# Altium footprint library con-thomas-betts.PCBLIB: 58 footprints (part 1 of 4)
Each footprint in its own frame and in the unit in brackets; x right, y up, seen from the top. Pads: shape width x height; smd on the part's side, far side on the other; paste and mask are expansions set on the pad; w line width, h text height; cw(c..) or ccw(c..) is an arc to the next point about the centre after c.
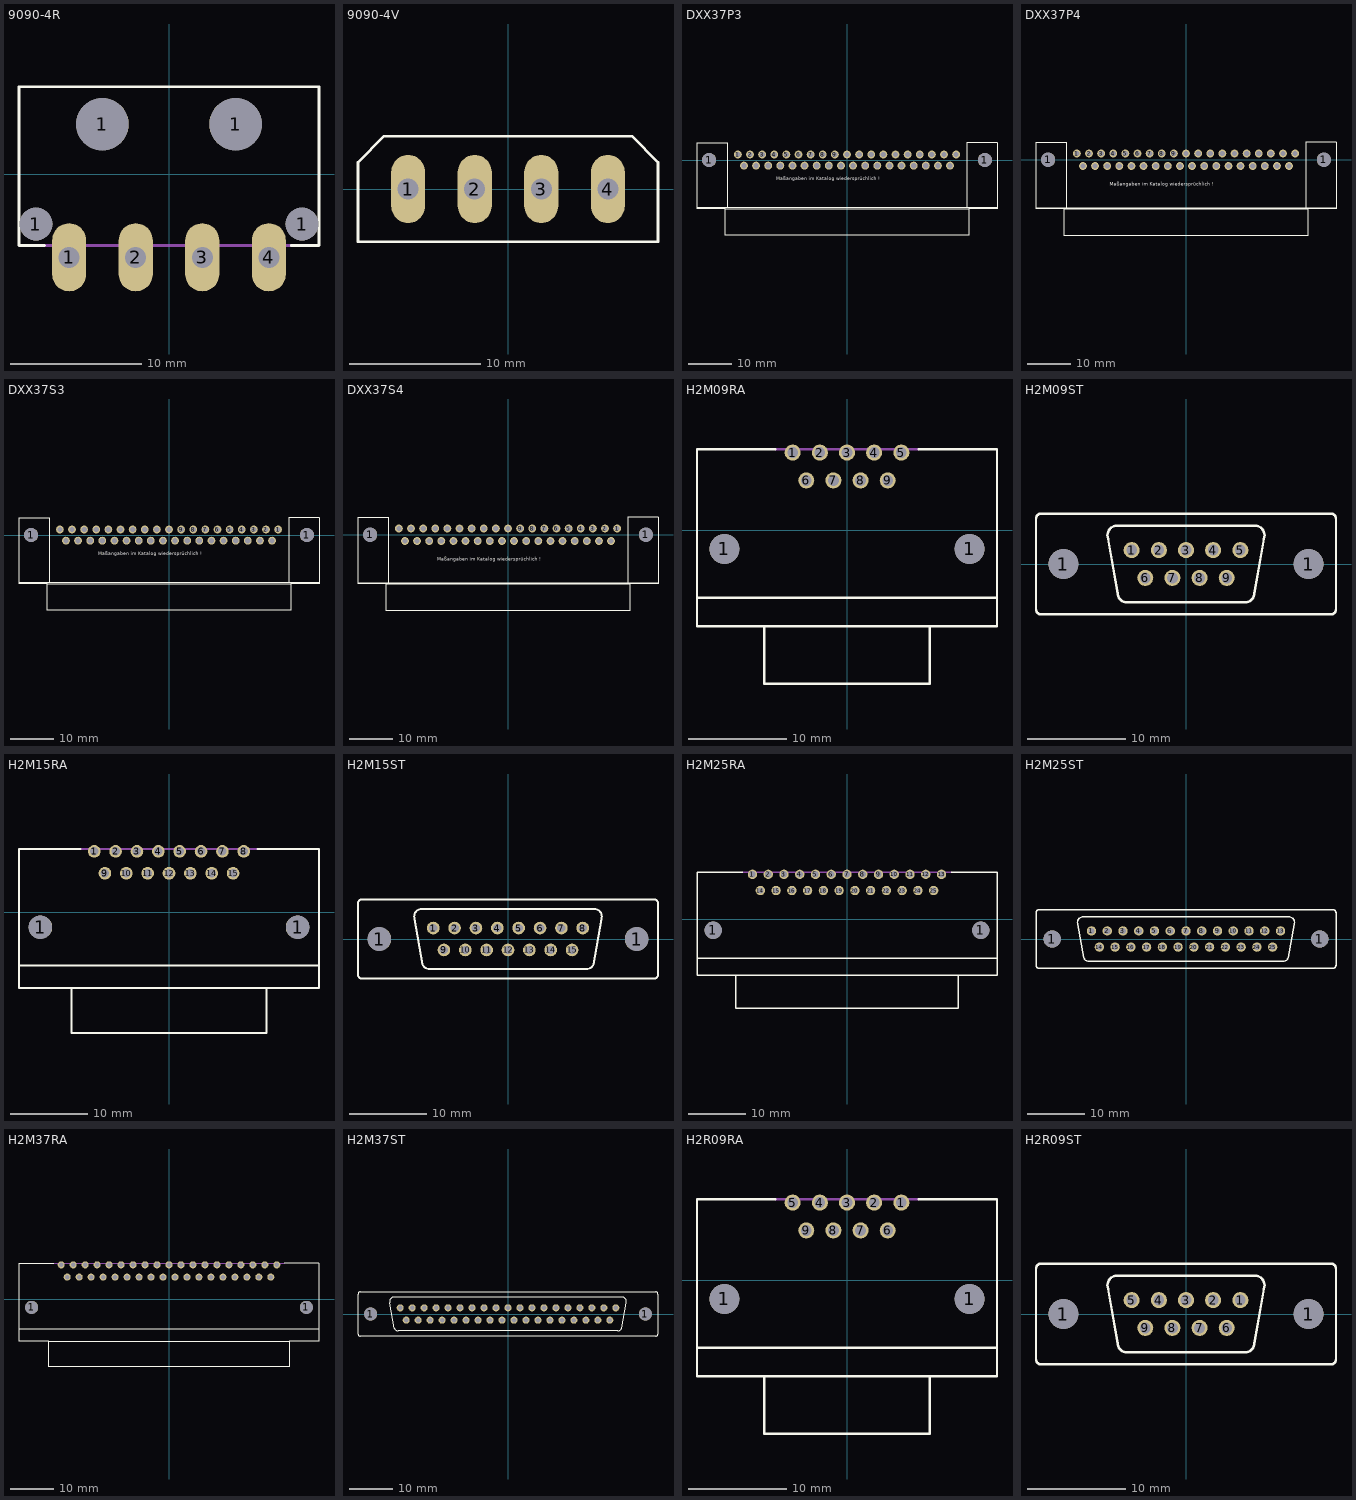
[diagram p0: the footprints below, top view; thin cyan lines are the x and y axes]

## 9090-4R [mm]
pads (8):
  round 2.5 hole 2.5: 1(-10.16,-3.81) 1(10.16,-3.81)
  oval 2.6x5.2 hole 1.6: 1(-7.62,-6.35) 2(-2.54,-6.35) 3(2.54,-6.35) 4(7.62,-6.35)
  round 4 hole 4: 1(-5.08,3.81) 1(5.08,3.81)
Top Overlay:
  lines w0.203: -9.5,-5.45 -11.45,-5.45 -11.45,6.675 11.45,6.675 11.45,-5.45 9.325,-5.45
Mechanical 16:
  lines w0.203: -9.5,-5.45 9.325,-5.45

## 9090-4V [mil]
pads (4):
  oval 102.36x204.72 hole 62.99: 1(-300,0) 2(-100,0) 3(100,0) 4(300,0)
Top Overlay:
  lines w8: -450.79,-158.66 450.79,-158.66 450.79,79.92 372.05,158.66 -372.05,158.66 -450.79,79.92 -450.79,-158.66

## DXX37P3 [mil]
pads (39):
  round 125.98 hole 125.98: 1(-1238.5,0) 1(1238.5,0)
  round 70.86 hole 47.24: 1(-981,50) 2(-872,50) 3(-763,50) 4(-654,50) 5(-545,50) 6(-436,50) 7(-327,50) 8(-218,50) 9(-109,50) 10(0,50) 11(109,50) 12(218,50) 13(327,50) 14(436,50) 15(545,50) 16(654,50) 17(763,50) 18(872,50) 19(981,50) 20(-926.5,-50) 21(-817.5,-50) 22(-708.5,-50) 23(-599.5,-50) 24(-490.5,-50) 25(-381.5,-50) 26(-272.5,-50) 27(-163.5,-50) 28(-54.5,-50) 29(54.5,-50) 30(163.5,-50) 31(272.5,-50) 32(381.5,-50) 33(490.5,-50) 34(599.5,-50) 35(708.5,-50) 36(817.5,-50) 37(926.5,-50)
Top Overlay:
  lines w10: -1348.5,-435.5 -1348.5,156.5 -1075,156.5 -1075,-420 ; -1348,-435.5 -1096,-435.5 ; -1347,-425.5 1348,-425.5 ; 1075,-420 1075,155.5 1348.5,155.5 1348.5,-435.5 ; 1348,-435.5 1096,-435.5 ; -1096,-435.5 -1096,-676.5 1096,-676.5 1096,-435.5 ; -1096,-435.5 1096,-435.5
  text "Maßangaben im Katalog wiedersprüchlich !" at -635,-196 h49.6

## DXX37P4 [mil]
pads (39):
  round 125.98 hole 125.98: 1(-1238.5,0) 1(1238.5,0)
  round 70.86 hole 47.24: 1(-981,56) 2(-872,56) 3(-763,56) 4(-654,56) 5(-545,56) 6(-436,56) 7(-327,56) 8(-218,56) 9(-109,56) 10(0,56) 11(109,56) 12(218,56) 13(327,56) 14(436,56) 15(545,56) 16(654,56) 17(763,56) 18(872,56) 19(981,56) 20(-926.5,-56) 21(-817.5,-56) 22(-708.5,-56) 23(-599.5,-56) 24(-490.5,-56) 25(-381.5,-56) 26(-272.5,-56) 27(-163.5,-56) 28(-54.5,-56) 29(54.5,-56) 30(163.5,-56) 31(272.5,-56) 32(381.5,-56) 33(490.5,-56) 34(599.5,-56) 35(708.5,-56) 36(817.5,-56) 37(926.5,-56)
Top Overlay:
  lines w10: -1348.5,-431.5 1348.5,-431.5 ; -1075,-426 -1075,156.5 -1348.5,156.5 -1348.5,-441.5 -1096,-441.5 ; 1075,-426 1075,155.5 1348.5,155.5 1348.5,-441.5 1096,-441.5 ; -1096,-441.5 -1096,-682.5 1096,-682.5 1096,-441.5 ; -1096,-441.5 1096,-441.5
  text "Maßangaben im Katalog wiedersprüchlich !" at -685,-246 h49.6

## DXX37S3 [mil]
pads (39):
  round 125.98 hole 125.98: 1(-1238.5,0) 1(1238.5,0)
  round 70 hole 47.24: 1(981,50) 2(872,50) 3(763,50) 4(654,50) 5(545,50) 6(436,50) 7(327,50) 8(218,50) 9(109,50) 10(0,50) 11(-109,50) 12(-218,50) 13(-327,50) 14(-436,50) 15(-545,50) 16(-654,50) 17(-763,50) 18(-872,50) 19(-981,50) 20(926.5,-50) 21(817.5,-50) 22(708.5,-50) 23(599.5,-50) 24(490.5,-50) 25(381.5,-50) 26(272.5,-50) 27(163.5,-50) 28(54.5,-50) 29(-54.5,-50) 30(-163.5,-50) 31(-272.5,-50) 32(-381.5,-50) 33(-490.5,-50) 34(-599.5,-50) 35(-708.5,-50) 36(-817.5,-50) 37(-926.5,-50)
Top Overlay:
  lines w10: -1348.5,-435.5 -1348.5,156.5 -1075,156.5 -1075,-420 ; -1348,-435.5 -1096,-435.5 ; -1347,-425.5 1348,-425.5 ; 1075,-420 1075,155.5 1348.5,155.5 1348.5,-435.5 ; 1348,-435.5 1096,-435.5 ; -1096,-435.5 -1096,-676.5 1096,-676.5 1096,-435.5 ; -1096,-435.5 1096,-435.5
  text "Maßangaben im Katalog wiedersprüchlich !" at -635,-196 h49.6

## DXX37S4 [mil]
pads (39):
  round 125.98 hole 125.98: 1(-1238.5,0) 1(1238.5,0)
  round 70.86 hole 47.24: 1(981,56) 2(872,56) 3(763,56) 4(654,56) 5(545,56) 6(436,56) 7(327,56) 8(218,56) 9(109,56) 10(0,56) 11(-109,56) 12(-218,56) 13(-327,56) 14(-436,56) 15(-545,56) 16(-654,56) 17(-763,56) 18(-872,56) 19(-981,56) 20(926.5,-56) 21(817.5,-56) 22(708.5,-56) 23(599.5,-56) 24(490.5,-56) 25(381.5,-56) 26(272.5,-56) 27(163.5,-56) 28(54.5,-56) 29(-54.5,-56) 30(-163.5,-56) 31(-272.5,-56) 32(-381.5,-56) 33(-490.5,-56) 34(-599.5,-56) 35(-708.5,-56) 36(-817.5,-56) 37(-926.5,-56)
Top Overlay:
  lines w10: -1348.5,-431.5 1348.5,-431.5 ; -1075,-426 -1075,156.5 -1348.5,156.5 -1348.5,-441.5 -1096,-441.5 ; 1075,-426 1075,155.5 1348.5,155.5 1348.5,-441.5 1096,-441.5 ; -1096,-441.5 -1096,-682.5 1096,-682.5 1096,-441.5 ; -1096,-441.5 1096,-441.5
  text "Maßangaben im Katalog wiedersprüchlich !" at -635,-246 h49.6

## H2M09RA [mil]
pads (11):
  round 120 hole 120: 1(-492,-75) 1(492,-75)
  round 64.5 hole 43: 1(-218,312) 2(-109,312) 3(0,312) 4(109,312) 5(218,312) 6(-163.5,200) 7(-54.5,200) 8(54.5,200) 9(163.5,200)
Top Overlay:
  lines w10: -602,-270 602,-270 ; -287,325 -602,325 -602,-385 -333,-385 ; 287,325 602,325 602,-385 333,-385 ; -333,-385 -333,-615 333,-615 333,-385 ; -333,-385 333,-385
Mechanical 16:
  lines w10: -286,325 286,325

## H2M09ST [mil]
pads (11):
  round 120 hole 120: 1(-492,0) 1(492,0)
  round 64.5 hole 43: 1(-218,56) 2(-109,56) 3(0,56) 4(109,56) 5(218,56) 6(-163.5,-56) 7(-54.5,-56) 8(54.5,-56) 9(163.5,-56)
Top Overlay:
  lines w10: -602,-183 -602,182 cw(c-582,182) -582,202 582,202 cw(c582,182) 602,182 602,-182 cw(c582,-182) 582,-202 -583,-202 ; -602,-182 ccw(c-582,-182) -582,-202 ; -313,102 -272,-130 ccw(c-237.01,-116.5) -237,-154 237,-154 ccw(c237.01,-116.5) 272,-130 313,102 ccw(c276,114.85) 277,154 -277,154 ccw(c-276,114.85) -313,102

## H2M15RA [mil]
pads (17):
  round 120 hole 120: 1(-656,-75) 1(656,-75)
  round 64.5 hole 43: 1(-381.5,312) 2(-272.5,312) 3(-163.5,312) 4(-54.5,312) 5(54.5,312) 6(163.5,312) 7(272.5,312) 8(381.5,312) 9(-327,200) 10(-218,200) 11(-109,200) 12(0,200) 13(109,200) 14(218,200) 15(327,200)
Top Overlay:
  lines w10: -765.5,-270 765.5,-270 ; -450.5,325 -765.5,325 -765.5,-385 -496.5,-385 ; 450.5,325 765.5,325 765.5,-385 496.5,-385 ; -496.5,-385 -496.5,-615 496.5,-615 496.5,-385 ; -496.5,-385 496.5,-385
Mechanical 16:
  lines w10: -449.5,325 449.5,325

## H2M15ST [mil]
pads (17):
  round 120 hole 120: 1(-656,0) 1(656,0)
  round 64.5 hole 43: 1(-381.5,56) 2(-272.5,56) 3(-163.5,56) 4(-54.5,56) 5(54.5,56) 6(163.5,56) 7(272.5,56) 8(381.5,56) 9(-327,-56) 10(-218,-56) 11(-109,-56) 12(0,-56) 13(109,-56) 14(218,-56) 15(327,-56)
Top Overlay:
  lines w10: -765.5,-183 -765.5,182 cw(c-745.5,182) -745.5,202 745.5,202 cw(c745.5,182) 765.5,182 765.5,-182 cw(c745.5,-182) 745.5,-202 -746.5,-202 ; -765.5,-182 ccw(c-745.5,-182) -745.5,-202 ; -476.5,102 -435.5,-130 ccw(c-400.51,-116.5) -400.5,-154 400.5,-154 ccw(c400.51,-116.5) 435.5,-130 476.5,102 ccw(c439.5,114.85) 440.5,154 -440.5,154 ccw(c-439.5,114.85) -476.5,102

## H2M25RA [mil]
pads (27):
  round 120 hole 120: 1(-926,-75) 1(926,-75)
  round 64.5 hole 43: 1(-654,312) 2(-545,312) 3(-436,312) 4(-327,312) 5(-218,312) 6(-109,312) 7(0,312) 8(109,312) 9(218,312) 10(327,312) 11(436,312) 12(545,312) 13(654,312) 14(-599.5,200) 15(-490.5,200) 16(-381.5,200) 17(-272.5,200) 18(-163.5,200) 19(-54.5,200) 20(54.5,200) 21(163.5,200) 22(272.5,200) 23(381.5,200) 24(490.5,200) 25(599.5,200)
Top Overlay:
  lines w10: -1038,-270 1038,-270 ; -723,325 -1038,325 -1038,-385 -769,-385 ; 723,325 1038,325 1038,-385 769,-385 ; -769,-385 -769,-615 769,-615 769,-385 ; -769,-385 769,-385
Mechanical 16:
  lines w10: -722,325 722,325

## H2M25ST [mil]
pads (27):
  round 120 hole 120: 1(-926,0) 1(926,0)
  round 64.5 hole 43: 1(-654,56) 2(-545,56) 3(-436,56) 4(-327,56) 5(-218,56) 6(-109,56) 7(0,56) 8(109,56) 9(218,56) 10(327,56) 11(436,56) 12(545,56) 13(654,56) 14(-599.5,-56) 15(-490.5,-56) 16(-381.5,-56) 17(-272.5,-56) 18(-163.5,-56) 19(-54.5,-56) 20(54.5,-56) 21(163.5,-56) 22(272.5,-56) 23(381.5,-56) 24(490.5,-56) 25(599.5,-56)
Top Overlay:
  lines w10: -1038,-183 -1038,182 cw(c-1018,182) -1018,202 1018,202 cw(c1018,182) 1038,182 1038,-182 cw(c1018,-182) 1018,-202 -1019,-202 ; -1038,-182 ccw(c-1018,-182) -1018,-202 ; -749,102 -708,-130 ccw(c-673.01,-116.5) -673,-154 673,-154 ccw(c673.01,-116.5) 708,-130 749,102 ccw(c712,114.85) 713,154 -713,154 ccw(c-712,114.85) -749,102

## H2M37RA [mil]
pads (39):
  round 120 hole 120: 1(-1250,-75) 1(1250,-75)
  round 64.5 hole 43: 1(-981,312) 2(-872,312) 3(-763,312) 4(-654,312) 5(-545,312) 6(-436,312) 7(-327,312) 8(-218,312) 9(-109,312) 10(0,312) 11(109,312) 12(218,312) 13(327,312) 14(436,312) 15(545,312) 16(654,312) 17(763,312) 18(872,312) 19(981,312) 20(-926.5,200) 21(-817.5,200) 22(-708.5,200) 23(-599.5,200) 24(-490.5,200) 25(-381.5,200) 26(-272.5,200) 27(-163.5,200) 28(-54.5,200) 29(54.5,200) 30(163.5,200) 31(272.5,200) 32(381.5,200) 33(490.5,200) 34(599.5,200) 35(708.5,200) 36(817.5,200) 37(926.5,200)
Top Overlay:
  lines w10: -1365,-270 1365,-270 ; -1050,325 -1365,325 -1365,-385 -1096,-385 ; 1050,325 1365,325 1365,-385 1096,-385 ; -1096,-385 -1096,-615 1096,-615 1096,-385 ; -1096,-385 1096,-385
Mechanical 16:
  lines w10: -1049,325 1049,325

## H2M37ST [mil]
pads (39):
  round 120 hole 120: 1(-1250,0) 1(1250,0)
  round 64.5 hole 43: 1(-981,56) 2(-872,56) 3(-763,56) 4(-654,56) 5(-545,56) 6(-436,56) 7(-327,56) 8(-218,56) 9(-109,56) 10(0,56) 11(109,56) 12(218,56) 13(327,56) 14(436,56) 15(545,56) 16(654,56) 17(763,56) 18(872,56) 19(981,56) 20(-926.5,-56) 21(-817.5,-56) 22(-708.5,-56) 23(-599.5,-56) 24(-490.5,-56) 25(-381.5,-56) 26(-272.5,-56) 27(-163.5,-56) 28(-54.5,-56) 29(54.5,-56) 30(163.5,-56) 31(272.5,-56) 32(381.5,-56) 33(490.5,-56) 34(599.5,-56) 35(708.5,-56) 36(817.5,-56) 37(926.5,-56)
Top Overlay:
  lines w10: -1365,-183 -1365,182 cw(c-1345,182) -1345,202 1345,202 cw(c1345,182) 1365,182 1365,-182 cw(c1345,-182) 1345,-202 -1346,-202 ; -1365,-182 ccw(c-1345,-182) -1345,-202 ; -1076,102 -1035,-130 ccw(c-1000.01,-116.5) -1000,-154 1000,-154 ccw(c1000.01,-116.5) 1035,-130 1076,102 ccw(c1039,114.85) 1040,154 -1040,154 ccw(c-1039,114.85) -1076,102

## H2R09RA [mil]
pads (11):
  round 120 hole 120: 1(-492,-75) 1(492,-75)
  round 64.5 hole 43: 1(218,312) 2(109,312) 3(0,312) 4(-109,312) 5(-218,312) 6(163.5,200) 7(54.5,200) 8(-54.5,200) 9(-163.5,200)
Top Overlay:
  lines w10: -602,-270 602,-270 ; -287,325 -602,325 -602,-385 -333,-385 ; 287,325 602,325 602,-385 333,-385 ; -333,-385 -333,-615 333,-615 333,-385 ; -333,-385 333,-385
Mechanical 16:
  lines w10: -286,325 286,325

## H2R09ST [mil]
pads (11):
  round 120 hole 120: 1(-492,0) 1(492,0)
  round 64.5 hole 43: 1(218,56) 2(109,56) 3(0,56) 4(-109,56) 5(-218,56) 6(163.5,-56) 7(54.5,-56) 8(-54.5,-56) 9(-163.5,-56)
Top Overlay:
  lines w10: -602,-183 -602,182 cw(c-582,182) -582,202 582,202 cw(c582,182) 602,182 602,-182 cw(c582,-182) 582,-202 -583,-202 ; -602,-182 ccw(c-582,-182) -582,-202 ; -313,102 -272,-130 ccw(c-237.01,-116.5) -237,-154 237,-154 ccw(c237.01,-116.5) 272,-130 313,102 ccw(c276,114.85) 277,154 -277,154 ccw(c-276,114.85) -313,102